# Altium footprint library Fiber.PcbLib: 1 footprints
Each footprint in its own frame and in the unit in brackets; x right, y up, seen from the top. Pads: shape width x height; smd on the part's side, far side on the other; paste and mask are expansions set on the pad; w line width, h text height; cw(c..) or ccw(c..) is an arc to the next point about the centre after c.
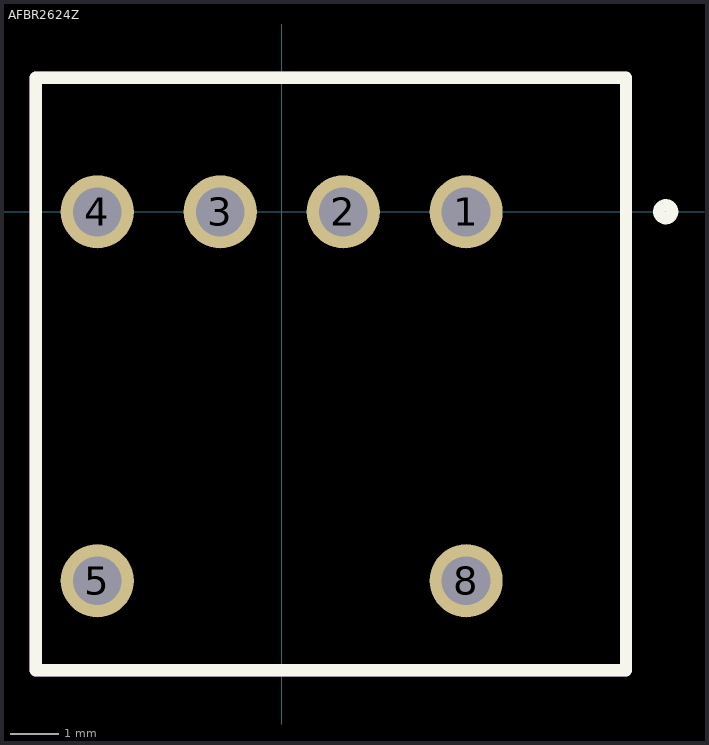
[diagram p0: the footprint, top view; thin cyan lines are the x and y axes]

## AFBR2624Z [mm]
pads (6):
  round 1.51 hole 1.01: 1(3.81,0) 2(1.27,0) 3(-1.27,0) 4(-3.81,0) 5(-3.81,-7.62) 8(3.81,-7.62)
Top Overlay:
  circle w0.254: c7.932,0.002 r0.133
  lines w0.254: -5.08,-9.47 7.11,-9.47 7.11,2.77 -5.08,2.77 -5.08,-9.47
Mechanical 13:
  lines w0.254: -5.08,-9.47 7.11,-9.47 7.11,2.77 -5.08,2.77 -5.08,-9.47
3D body: height 7.6, standoff 0, extent -5.1,-9.322 5.1,2.8
3D body: height 7.6, standoff 0, extent -5.1,-16.001 5.1,-9.32